# Altium schematic symbol library 564KP2V OSM.Schlib: 1 symbol
Pins are listed as number, name and electrical type; pins without a type are passive.

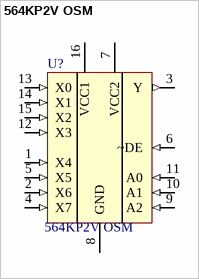
[diagram p0: symbol 564KP2V OSM]

## 564KP2V OSM
designator U?
Назначение: Аналоговый мультиплексор; Наименование: ОСМ 564КП2В
footprint 402.16-33
pins: 1 X4 (in), 2 X6 (in), 3 Y (out), 4 X7 (in), 5 X5 (in), 6 ~DE (in), 7 VCC2 (oc), 8 GND (oc), 9 A2 (in), 10 A1 (in), 11 A0 (in), 12 X3 (in), 13 X0 (in), 14 X1 (in), 15 X2 (in), 16 VCC1 (oc)